# Altium footprint library ELEC(8.0x10.2)-SMD.PcbLib: 1 footprints
Each footprint in its own frame and in the unit in brackets; x right, y up, seen from the top. Pads: shape width x height; smd on the part's side, far side on the other; paste and mask are expansions set on the pad; w line width, h text height; cw(c..) or ccw(c..) is an arc to the next point about the centre after c.
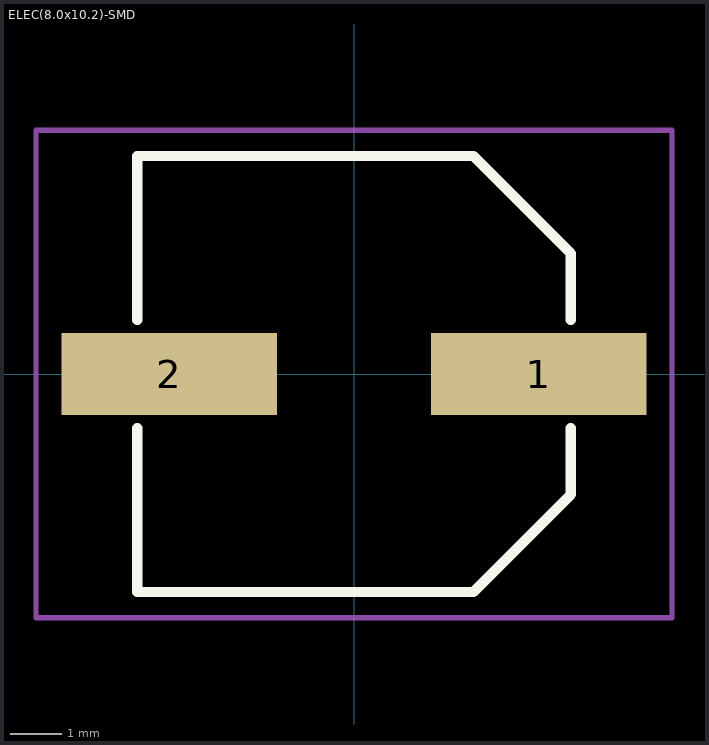
[diagram p0: the footprint, top view; thin cyan lines are the x and y axes]

## ELEC(8.0x10.2)-SMD [mm]
pads (2):
  rect 4.2x1.6 smd: 1(3.6,0) 2(-3.6,0)
Top Overlay:
  lines w0.2: -4.225,-1.05 -4.225,-4.25 2.325,-4.25 4.225,-2.35 4.225,-1.05 ; -4.225,1.05 -4.225,4.25 2.325,4.25 4.225,2.35 4.225,1.05
Top Courtyard:
  lines w0.1: -6.2,-0.8 -6.2,-4.75 ; -5.25,-4.75 -6.2,-4.75 ; 5.25,4.75 6.2,4.75 ; 6.2,0.8 6.2,4.75 ; -6.2,-4.75 6.2,-4.75 6.2,4.75 ; -6.2,-4.75 -6.2,4.75 6.2,4.75
3D body "EDH337M6R3A9MAA.step": height 10.51, standoff 0, extent -5.25,-4.25 5.25,4.25